# Altium footprint library Mach_congtac_thong_minh_Kien.PcbLib: 35 footprints (part 3 of 3)
Each footprint in its own frame and in the unit in brackets; x right, y up, seen from the top. Pads: shape width x height; smd on the part's side, far side on the other; paste and mask are expansions set on the pad; w line width, h text height; cw(c..) or ccw(c..) is an arc to the next point about the centre after c.
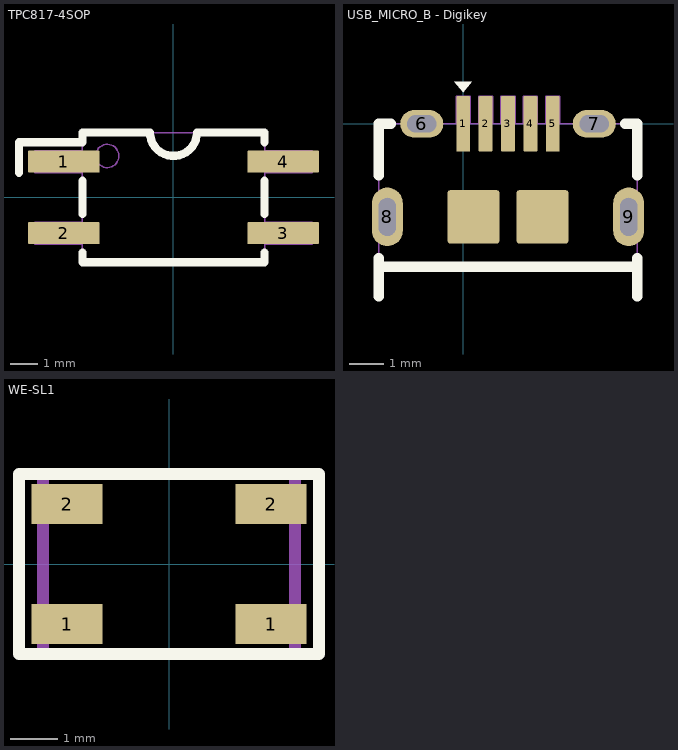
[diagram p2: the footprints below, top view; thin cyan lines are the x and y axes]

## TPC817-4SOP [mm] "OPTOISO 5KV TRANS 4SOP"
height 3.68
pads (4):
  rrect10% 2.6x0.8 smd mask+0.05: 1(-3.975,1.295) 2(-3.975,-1.295) 3(3.975,-1.295) 4(3.975,1.295)
Top Overlay:
  lines w0.3: -5.6,0.894 -5.6,2 -3.3,2 -3.3,2.35 -0.85,2.35 ccw(c0,2.35) 0.85,2.35 3.3,2.35 3.3,2 ; -3.3,-2 -3.3,-2.35 3.3,-2.35 3.3,-2 ; -3.3,-0.6 -3.3,0.6 ; 3.3,-0.6 3.3,0.6
Mechanical 2:
  circle w0.05: c-2.4,1.5 r0.424
  lines w0.05: -3.317,-1.695 -5.027,-1.695 -5.027,-0.896 -3.301,-0.896 ; -3.316,0.894 -3.317,0.895 -5.027,0.895 -5.027,1.694 -3.301,1.694 ; -0.85,2.35 ccw(c0,2.35) 0.85,2.35 ; 3.301,-1.694 5.027,-1.694 5.027,-0.895 3.317,-0.895 ; 3.301,0.896 5.027,0.896 5.027,1.695 3.317,1.695 ; -3.3,-2.35 -3.3,2.35 3.3,2.35 3.3,-2.35 -3.3,-2.35
  text "E" at 2.4,-1.7 h0.75
  text "K" at -3,-1.694 h0.75
  text ".Designator" at 0,0 h0.75
  text "A" at -3,0.1 h0.75
  text "C" at 2.4,0.9 h0.75
3D body "User Library-LTV-356T.step": height 2, standoff -0.1, extent -3.5,-1.925 3.5,1.925

## USB_MICRO_B - Digikey [mm] "USB_MICRO_B, 609-4618-1-ND"
height 3
pads (11):
  rrect10% 0.4x1.6 smd mask+0.05: 1(0,0) 2(0.65,0) 3(1.3,0) 4(1.95,0) 5(2.6,0)
  oval 1.25x0.8 hole 0.85 slot 0.5 at 90 deg mask+0.05: 6(-1.2,0) 7(3.8,0)
  oval 0.9x1.7 hole 0.5 slot 1.1 at 90 deg mask+0.05: 8(-2.2,-2.7) 9(4.8,-2.7)
  rrect10% 1.5x1.55 smd mask+0.05: ""(0.3,-2.7) ""(2.3,-2.7)
Top Overlay:
  region: 0,0.914 -0.254,1.219 0.254,1.219
  lines w0.3: -2.45,-5 -2.45,-3.9 ; -2.45,-4.15 5.05,-4.15 ; -2.45,-1.5 -2.45,0 -2.1,0 ; 4.7,0 5.05,0 5.05,-1.5 ; 5.05,-5 5.05,-3.9
Mechanical 2:
  lines w0.05: -2.45,-5 -2.45,0 5.05,0 5.05,-5 ; -2.45,-4.15 5.05,-4.15 ; -0.2,0 -0.2,0.8 0.2,0.8 0.2,0 ; 0.45,0 0.45,0.8 0.85,0.8 0.85,0 ; 1.1,0 1.1,0.8 1.5,0.8 1.5,0 ; 1.75,0 1.75,0.8 2.15,0.8 2.15,0 ; 2.4,0 2.4,0.8 2.8,0.8 2.8,0
  text "1" at -0.1,-1 h0.75
  text "5" at 2.3,-1 h0.75
  text ".Designator" at 0.4,-2.2 h0.75
3D body "usb micro b.stp": height 2.61, standoff -0.8, extent -2.45,-5 5.05,0.295

## WE-SL1 [mm]
pads (4):
  rect 1.5x0.85 smd: 1(-2.159,-1.27) 1(2.159,-1.27) 2(-2.159,1.27) 2(2.159,1.27)
Top Overlay:
  lines w0.254: -3.175,-1.905 -3.175,1.905 3.175,1.905 3.175,-1.905 -3.175,-1.905
Mechanical 15:
  lines w0.254: -2.667,-1.905 2.667,-1.905 2.667,1.905 -2.667,1.905 -2.667,-1.905
3D body "744212820.stp": height 1.7, standoff 0.04, extent -2.6,-1.8 2.6,1.8